# Altium integrated library Integrated_Library.IntLib: 5 symbols
Pins are listed as number, name and electrical type; pins without a type are passive.

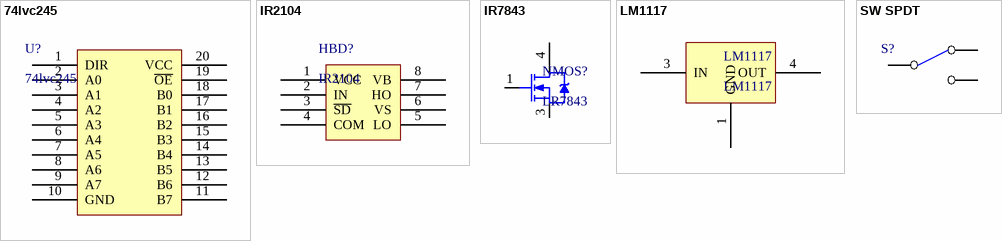
[diagram p0: symbols 74lvc245 to SW SPDT]

## 74lvc245
designator U?
footprint 74lvc245
pins: 1 DIR, 2 A0, 3 A1, 4 A2, 5 A3, 6 A4, 7 A5, 8 A6, 9 A7, 10 GND, 11 B7, 12 B6, 13 B5, 14 B4, 15 B3, 16 B2, 17 B1, 18 B0, 19 ~{OE}, 20 VCC

## IR2104
designator HBD?
footprint IR2104
pins: 1 VCC, 2 IN, 3 ~{SD}, 4 COM, 5 LO, 6 VS, 7 HO, 8 VB

## IR7843
designator NMOS?, comment LR7843
footprint IR7843
pins: 1 G, 3 S, 4 D

## LM1117
designator LM1117
footprint lm1117
pins: 1 GND, 3 IN, 4 OUT

## SW SPDT
designator S?
footprint SW3P
pins: 1 COMMON, 2 NC, 3 NO